# Altium schematic symbol library mcu_board.SchLib: 4 symbols
Pins are listed as number, name and electrical type; pins without a type are passive.

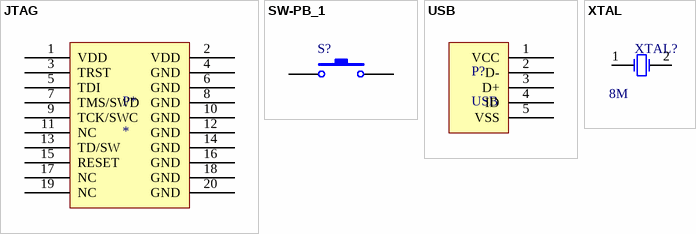
[diagram p0: symbols JTAG to XTAL]

## JTAG
designator P*
footprint JTAG
pins: 1 VDD, 2 VDD, 3 TRST, 4 GND, 5 TDI, 6 GND, 7 TMS/SWD, 8 GND, 9 TCK/SWC, 10 GND, 11 NC, 12 GND, 13 TD/SW, 14 GND, 15 RESET, 16 GND, 17 NC, 18 GND, 19 NC, 20 GND

## SW-PB_1
designator S?
Switch; Published: 24-Mar-1999; LatestRevisionDate: 17-Jul-2002; LatestRevisionNote: Re-released for DXP Platform.; PackageReference: SPST-2; Publisher: Altium Limited
footprint SW-2-5*3
footprint SW-2-6*3
pins: 1, 2

## USB
designator P?
footprint USB_MICRO
footprint USB_MINI
pins: 1 VCC, 2 D-, 3 D+, 4 ID, 5 VSS

## XTAL
designator XTAL?  Frequence: 8M
footprint XTAL1
pins: 1, 2